# Altium footprint library LMR51450FSQDRRRQ1.PcbLib: 3 footprints
Each footprint in its own frame and in the unit in brackets; x right, y up, seen from the top. Pads: shape width x height; smd on the part's side, far side on the other; paste and mask are expansions set on the pad; w line width, h text height; cw(c..) or ccw(c..) is an arc to the next point about the centre after c.
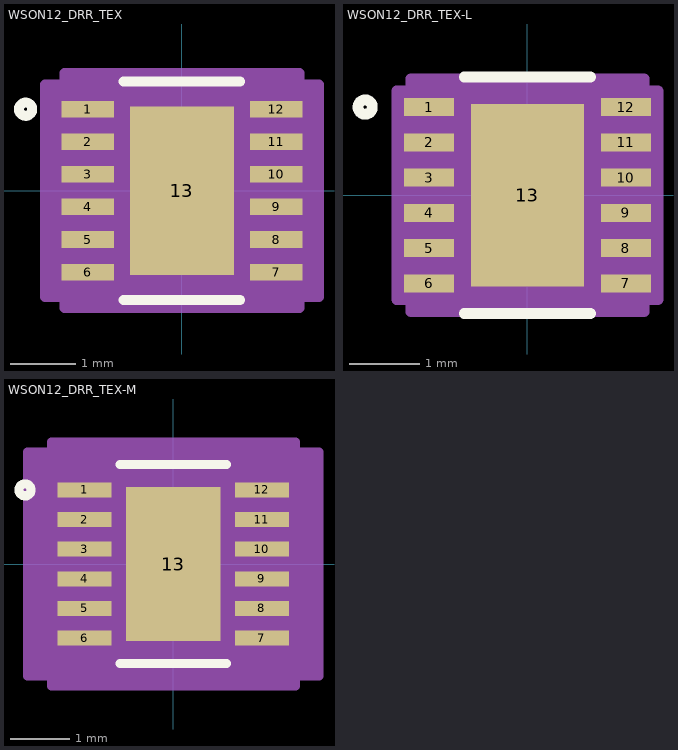
[diagram p0: the footprints below, top view; thin cyan lines are the x and y axes]

## WSON12_DRR_TEX [mil]
pads (13):
  rect 31.81x10.03 smd paste+0 mask+0: 1(-56.91,49.23) 2(-56.91,29.54) 3(-56.91,9.85) 4(-56.91,-9.85) 5(-56.91,-29.54) 6(-56.91,-49.23) 7(56.91,-49.23) 8(56.91,-29.54) 9(56.91,-9.85) 10(56.91,9.85) 11(56.91,29.54) 12(56.91,49.23)
  rect 63x102 smd paste+0 mask+0: 13(0,0)
Top Overlay:
  circle w6: c-94.5,49.23 r4
  lines w6: -35.23,-66 35.23,-66 ; -35.23,66 35.23,66
  text ".Designator" at -137.5,-25 h50
Top Paste:
  region: 27.56,47.06 -27.56,47.06 -27.56,3.94 27.56,3.94
  region: 27.56,-3.94 -27.56,-3.94 -27.56,-47.06 27.56,-47.06
Mechanical 13:
  circle w1: c-41,49.23 r3
  lines w1: -12,61 ccw(c0,61) 12,61 ; -61,-61 61,-61 61,61 -61,61 -61,-61
  text ".Designator" at -137.5,-25 h50
Mechanical 15:
  region: -71,-64.24 -82.81,-64.24 -82.81,64.24 -71,64.24 -71,71 71,71 71,64.24 82.81,64.24 82.81,-64.24 71,-64.24 71,-71 -71,-71
  lines w6: -82.81,-64.24 -82.81,64.24 -71,64.24 -71,71 71,71 71,64.24 82.81,64.24 82.81,-64.24 71,-64.24 71,-71 -71,-71 -71,-64.24 -82.81,-64.24
3D body "WSON12_DRR_TEX.step": height 32.09, standoff 0, extent -60.98,-60.98 60.98,60.98

## WSON12_DRR_TEX-L [mil]
pads (13):
  rect 27.87x10.03 smd paste+0 mask+0: 1(-54.94,49.23) 2(-54.94,29.54) 3(-54.94,9.85) 4(-54.94,-9.85) 5(-54.94,-29.54) 6(-54.94,-49.23) 7(54.94,-49.23) 8(54.94,-29.54) 9(54.94,-9.85) 10(54.94,9.85) 11(54.94,29.54) 12(54.94,49.23)
  rect 63x102 smd paste+0 mask+0: 13(0,0)
Top Overlay:
  circle w6: c-90.56,49.23 r4
  lines w6: -35.23,-66 35.23,-66 ; -35.23,66 35.23,66
  text ".Designator" at -137.5,-25 h50
Top Paste:
  region: 27.56,47.06 -27.56,47.06 -27.56,3.94 27.56,3.94
  region: 27.56,-3.94 -27.56,-3.94 -27.56,-47.06 27.56,-47.06
Mechanical 13:
  circle w1: c-41,49.23 r3
  lines w1: -12,61 ccw(c0,61) 12,61 ; -61,-61 61,-61 61,61 -61,61 -61,-61
  text ".Designator" at -137.5,-25 h50
Mechanical 15:
  region: -65,-58.24 -72.87,-58.24 -72.87,58.24 -65,58.24 -65,65 65,65 65,58.24 72.87,58.24 72.87,-58.24 65,-58.24 65,-65 -65,-65
  lines w6: -72.87,-58.24 -72.87,58.24 -65,58.24 -65,65 65,65 65,58.24 72.87,58.24 72.87,-58.24 65,-58.24 65,-65 -65,-65 -65,-58.24 -72.87,-58.24
3D body "WSON12_DRR_TEX.step": height 32.09, standoff 0, extent -60.98,-60.98 60.98,60.98

## WSON12_DRR_TEX-M [mil]
pads (13):
  rect 35.75x10.03 smd paste+0 mask+0: 1(-58.87,49.23) 2(-58.87,29.54) 3(-58.87,9.85) 4(-58.87,-9.85) 5(-58.87,-29.54) 6(-58.87,-49.23) 7(58.87,-49.23) 8(58.87,-29.54) 9(58.87,-9.85) 10(58.87,9.85) 11(58.87,29.54) 12(58.87,49.23)
  rect 63x102 smd paste+0 mask+0: 13(0,0)
Top Overlay:
  circle w6: c-98.44,49.23 r4
  lines w6: -35.23,-66 35.23,-66 ; -35.23,66 35.23,66
  text ".Designator" at -137.5,-25 h50
Top Paste:
  region: 27.56,47.06 -27.56,47.06 -27.56,3.94 27.56,3.94
  region: 27.56,-3.94 -27.56,-3.94 -27.56,-47.06 27.56,-47.06
Mechanical 13:
  circle w1: c-41,49.23 r3
  lines w1: -12,61 ccw(c0,61) 12,61 ; -61,-61 61,-61 61,61 -61,61 -61,-61
  text ".Designator" at -137.5,-25 h50
Mechanical 15:
  region: -81,-74.24 -96.75,-74.24 -96.75,74.24 -81,74.24 -81,81 81,81 81,74.24 96.75,74.24 96.75,-74.24 81,-74.24 81,-81 -81,-81
  lines w6: -96.75,-74.24 -96.75,74.24 -81,74.24 -81,81 81,81 81,74.24 96.75,74.24 96.75,-74.24 81,-74.24 81,-81 -81,-81 -81,-74.24 -96.75,-74.24
3D body "WSON12_DRR_TEX.step": height 32.09, standoff 0, extent -60.98,-60.98 60.98,60.98